# Altium footprint library 750315126.PcbLib: 1 footprints
Each footprint in its own frame and in the unit in brackets; x right, y up, seen from the top. Pads: shape width x height; smd on the part's side, far side on the other; paste and mask are expansions set on the pad; w line width, h text height; cw(c..) or ccw(c..) is an arc to the next point about the centre after c.
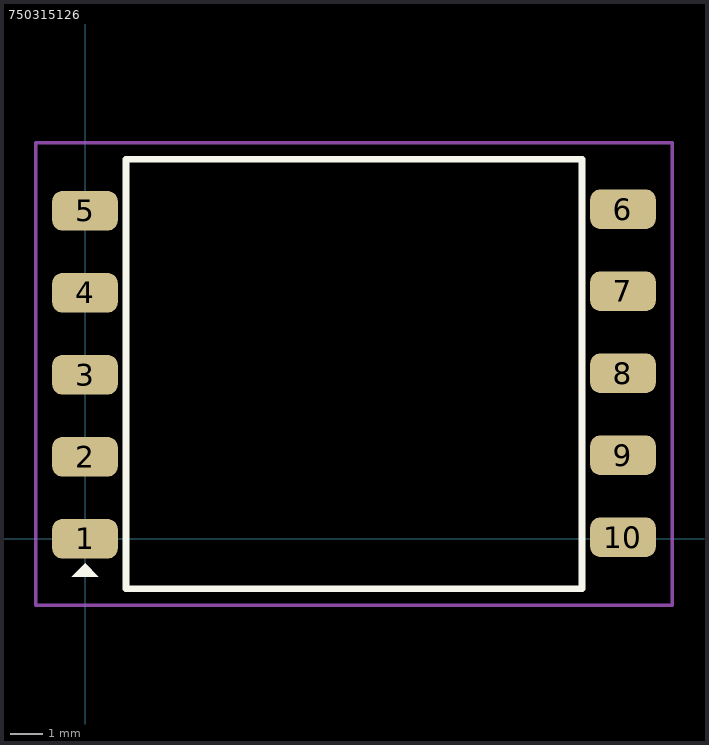
[diagram p0: the footprint, top view; thin cyan lines are the x and y axes]

## 750315126 [mm]
pads (10):
  rrect50% 2x1.2 smd: 1(0,0) 2(0,2.5) 3(0,5) 4(0,7.5) 5(0,10) 6(16.4,10.05) 7(16.4,7.55) 8(16.4,5.05) 9(16.4,2.55) 10(16.4,0.05)
Top Overlay:
  region: 0.4,-1.15 -0.4,-1.15 0,-0.75
  lines w0.2: 1.25,-1.525 1.25,11.575 15.15,11.575 15.15,-1.525 1.25,-1.525
Top Courtyard:
  lines w0.1: -1.5,-2.025 1.25,-2.025 17.9,-2.025 17.9,12.075 -1.5,12.075 -1.5,-2.025
3D body "070-5465 (rev1).STEP": height 11.96, standoff 0, extent -0.375,-1.525 16.785,11.575